# EAGLE library part RF-K-8A (library phoneIC)
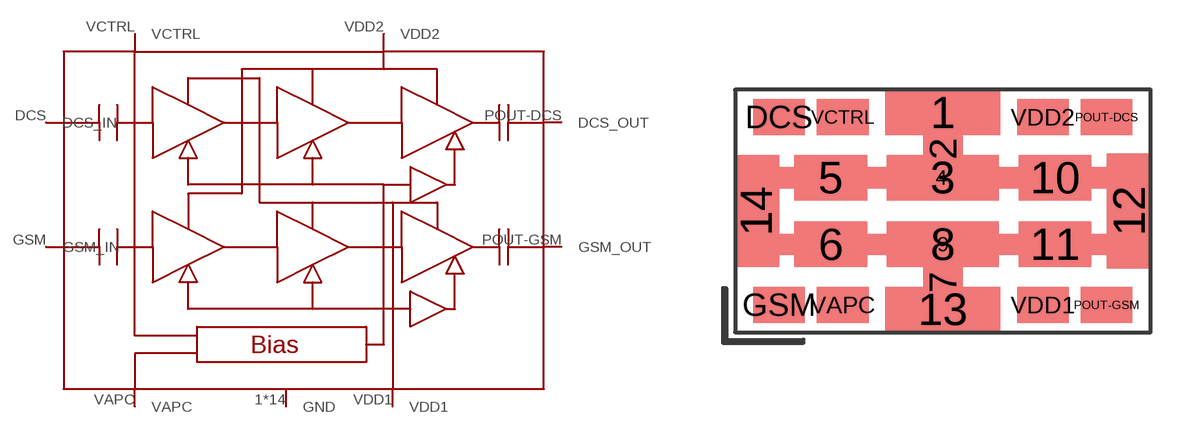
[diagram p0: symbol with the pads of RENESAS08123BA; footprint RENESAS08123BA]

Designator prefix -

## RF-K-8A  [RENESAS08123BA]
1  GND
2  GND
3  GND
4  GND
5  GND
6  GND
7  GND
8  GND
9  GND
10  GND
11  GND
12  GND
13  GND
14  GND
DCS  DCS_IN
GSM  GSM_IN
POUT-DCS  DCS_OUT
POUT-GSM  GSM_OUT
VAPC  VAPC
VCTRL  VCTRL
VDD1  VDD1
VDD2  VDD2

## Footprint RENESAS08123BA (pad centres in mm)
smd 3.8 x 1.5: 1 0,3.2; 13 0,-3.3
smd 1.3 x 2: 2 0,2; 7 0,-2.4
smd 3.7 x 1.5: 3 0,1.05; 8 0,-1.15
smd 11 x 0.7: 4 -0.05,1.05; 9 0,-1.15
smd 2.4 x 1.5: 5 -3.7,1.05; 6 -3.7,-1.15; 10 3.7,1.05; 11 3.7,-1.15
smd 1.5 x 3.8: 12 6.15,-0.05
smd 1.5 x 3.7: 14 -6.15,-0.05
smd 1.7 x 1.2: DCS -5.4,3.05; GSM -5.4,-3.15; POUT-DCS 5.4,3.05; POUT-GSM 5.4,-3.15; VAPC -3.3,-3.15; VCTRL -3.3,3.05; VDD1 3.3,-3.15; VDD2 3.3,3.05